# Altium footprint library PcbLib1.PcbLib: 5 footprints
Each footprint in its own frame and in the unit in brackets; x right, y up, seen from the top. Pads: shape width x height; smd on the part's side, far side on the other; paste and mask are expansions set on the pad; w line width, h text height; cw(c..) or ccw(c..) is an arc to the next point about the centre after c.
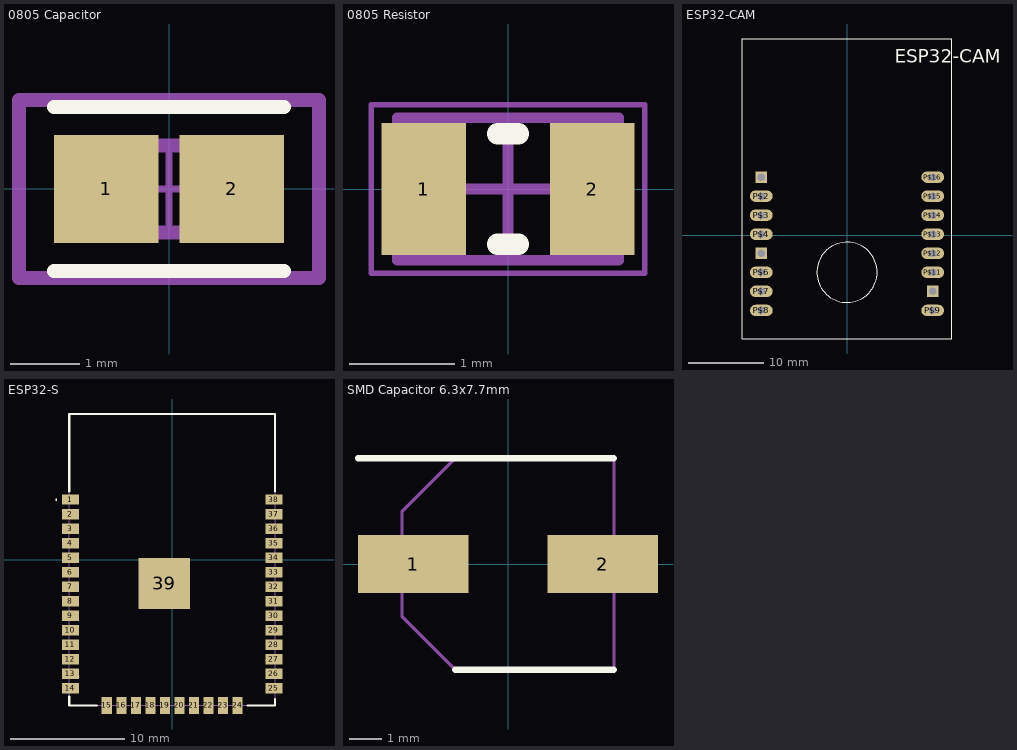
[diagram p0: the footprints below, top view; thin cyan lines are the x and y axes]

## 0805 Capacitor [mm]
pads (2):
  rect 1.505x1.556 smd paste+0 mask+0: 1(-0.901,0) 2(0.901,0)
Top Overlay:
  lines w0.2: -1.653,-1.178 1.653,-1.178 ; -1.653,1.178 1.653,1.178
Top Courtyard:
  lines w0.2: -2.153,-1.278 2.153,-1.278 2.153,1.278 -2.153,1.278 -2.153,-1.278
Top Assembly:
  lines w0.2: -2.153,-1.278 2.153,-1.278 2.153,1.278 -2.153,1.278 -2.153,-1.278
  text ".Designator" at 0,0.188 h1
Top 3D Body:
  lines w0.2: -1,-0.625 1,-0.625 1,0.625 -1,0.625 -1,-0.625
Top Component Center:
  lines w0.1: -0.5,0 0.5,0 ; 0,-0.5 0,0.5
3D body "Cap_Yageo_CC0805KKX7R7BB105_eec.STEP": height 0.25, standoff 0, extent -2.153,-1.278 2.153,1.278

## 0805 Resistor [mm]
pads (2):
  rect 0.8x1.25 smd: 1(-0.8,0) 2(0.8,0)
Top Overlay:
  lines w0.2: -0.1,-0.525 0.1,-0.525 ; -0.1,0.525 0.1,0.525
Top 3D Body:
  lines w0.1: -1.05,-0.675 1.05,-0.675 1.05,0.675 -1.05,0.675 -1.05,-0.675
Mechanical 15:
  lines w0.05: -1.3,-0.8 1.3,-0.8 1.3,0.8 -1.3,0.8 -1.3,-0.8
  lines w0.1: -0.5,0 0.5,0 ; 0,-0.5 0,0.5
3D body: height 0.6, standoff 0, extent 0.7,-0.675 1.05,0.675
3D body: height 0.6, standoff 0, extent -1.05,-0.675 -0.7,0.675
3D body: height 0.6, standoff 0, extent -0.7,-0.675 0.7,0.675

## ESP32-CAM [mil]
pads (16):
  rect 60x60 / inner round 60 / far side rect 60x60 hole 40: P$1(-450,305) P$5(-450,-95) P$10(450,-295)
  oval 120x60 hole 40: P$2(-450,205) P$3(-450,105) P$4(-450,5) P$6(-450,-195) P$7(-450,-295) P$8(-450,-395) P$9(450,-395) P$11(450,-195) P$12(450,-95) P$13(450,5) P$14(450,105) P$15(450,205) P$16(450,305)
Top Overlay:
  circle w5: c0,-195 r158.11
  lines w5: -550,-545 -550,1030 550,1030 550,-545 -550,-545
  text "ESP32-CAM" at 250,905 h70
3D body "ESP32-CAM--3DModel-STEP-269445.STEP": height 177.17, standoff -84.65, extent -531.5,-572.4 531.5,1002.4

## ESP32-S [mm]
pads (39):
  rect 1.5x0.9 smd: 1(-8.9,5.26) 2(-8.9,3.99) 3(-8.9,2.72) 4(-8.9,1.45) 5(-8.9,0.18) 6(-8.9,-1.09) 7(-8.9,-2.36) 8(-8.9,-3.63) 9(-8.9,-4.9) 10(-8.9,-6.17) 11(-8.9,-7.44) 12(-8.9,-8.71) 13(-8.9,-9.98) 14(-8.9,-11.25) 25(8.9,-11.25) 26(8.9,-9.98) 27(8.9,-8.71) 28(8.9,-7.44) 29(8.9,-6.17) 30(8.9,-4.9) 31(8.9,-3.63) 32(8.9,-2.36) 33(8.9,-1.09) 34(8.9,0.18) 35(8.9,1.45) 36(8.9,2.72) 37(8.9,3.99) 38(8.9,5.26)
  rect 0.9x1.5 smd: 15(-5.71,-12.75) 16(-4.44,-12.75) 17(-3.17,-12.75) 18(-1.9,-12.75) 19(-0.63,-12.75) 20(0.64,-12.75) 21(1.91,-12.75) 22(3.18,-12.75) 23(4.45,-12.75) 24(5.72,-12.75)
  rect 4.5x4.5 smd: 39(-0.68,-2.08)
Top Overlay:
  lines w0.1: -10.2,5.26 ccw(c-10.15,5.26) -10.1,5.26 ccw(c-10.15,5.26) -10.2,5.26
  lines w0.2: -9,-12 -9,-12.75 -6.6,-12.75 ; -9,6 -9,12.75 9,12.75 9,6 ; 6.6,-12.75 9,-12.75 9,-12.2
Mechanical 15:
  lines w0.1: -9,-12.75 9,-12.75 9,12.75 -9,12.75 -9,-12.75
3D body "ESP-32S.stp": height 3, standoff 0, extent -8.983,-12.75 9.017,12.75

## SMD Capacitor 6.3x7.7mm [mm]
pads (2):
  rect 3.45x1.8 smd: 1(-2.95,0) 2(2.95,0)
Top Overlay:
  lines w0.2: -4.675,3.3 3.3,3.3 ; -1.65,-3.3 3.3,-3.3
Mechanical 15:
  lines w0.1: -3.3,-1.65 -3.3,1.65 -1.65,3.3 3.3,3.3 3.3,-3.3 -1.65,-3.3 -3.3,-1.65
3D body "EDK227M016A9HAA.stp": height 7.71, standoff -0.3, extent -3.927,-3.371 3.673,3.429